# EAGLE library part LM556 (library F030NG)
Dual TIMER
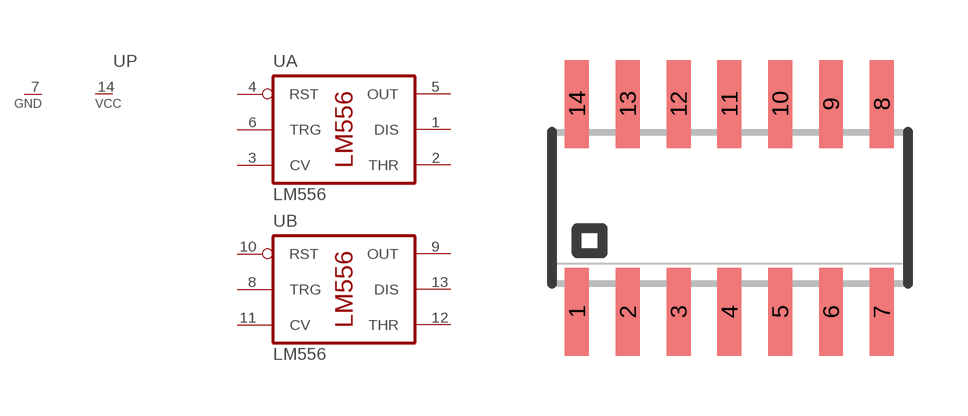
[diagram p40: symbol with the pads of SO14; footprint SO14]

Designator prefix U; gates A=LM556 B=LM556 P=1VCC_1GND

## LM556  [SO14]
1  A:DIS  in
2  A:THR  in
3  A:CV  in
4  A:RST  in
5  A:OUT  out
6  A:TRG  in
7  P:GND  pwr
8  B:TRG  in
9  B:OUT  out
10  B:RST  in
11  B:CV  in
12  B:THR  in
13  B:DIS  in
14  P:VCC  pwr

## Footprint SO14 (pad centres in mm)
SMALL OUTLINE INTEGRATED CIRCUIT body 3.9 mm/JEDEC MS-012AA
smd 0.6 x 2.2: 1 -3.81,-2.6; 2 -2.54,-2.6; 3 -1.27,-2.6; 4 0,-2.6; 5 1.27,-2.6; 6 2.54,-2.6; 7 3.81,-2.6; 8 3.81,2.6; 9 2.54,2.6; 10 1.27,2.6; 11 0,2.6; 12 -1.27,2.6; 13 -2.54,2.6; 14 -3.81,2.6